# Altium integrated library TI Power Management Linear Regulator Dual Channel LDO.IntLib: 299 symbols (part 4 of 15)
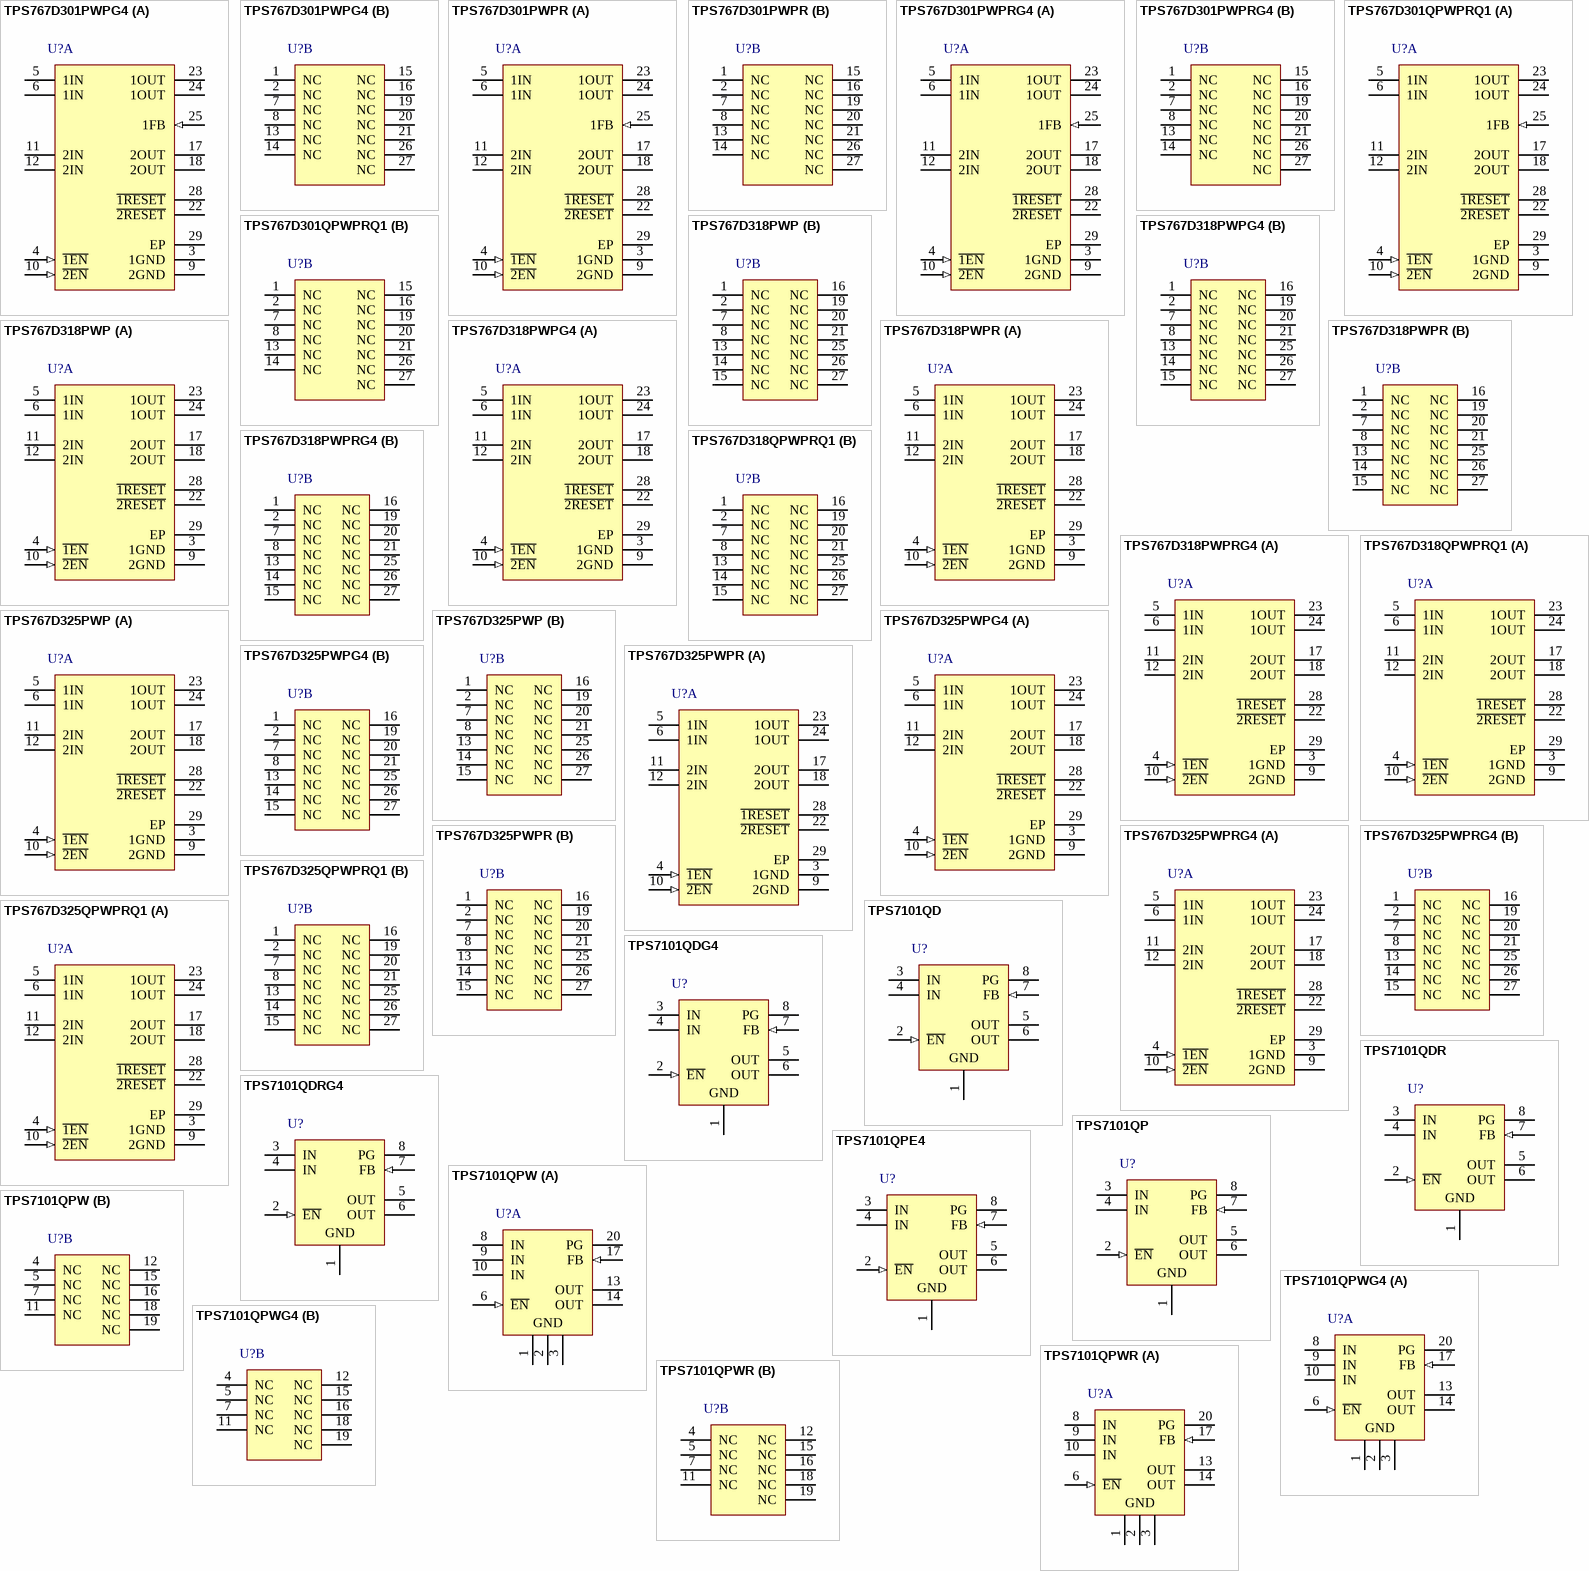
[diagram p14: symbols TPS767D301PWPG4 to TPS7101QPWR]

## TPS767D318PWPR
designator U?
Dual Output LDO, 1 A, Fixed 1.8, 3.3 V Output, 2.7 to 10 V Input, 28-pin HTSSOP (PWP), -40 to 125 degC, Green (RoHS & no Sb/Br); Manufacturer: Texas Instruments; PartNumber: TPS767D318PWPR; Iout(Max)(A): 1; Iq(Typ)(mA): 0.08; SubFamily: Dual Channel LDO; Vdo(Typ)(mV): 350; Vin(Max)(V): 10; Vin(Min)(V): 2.7; Vout(Max)(V): 3.3; DatasheetVersion: SLVS209H; PackageVersion: 4073225-6/I; PackageReference: PWP28-5905X2000TP; PackageDescription: 28-Pin Plastic Small Outline, Body 4.4 x 9.7 mm, Pitch 0.65 mm; Supplier 1: Digi-Key; Supplier Part Number 1: 296-27080-2-ND; Supplier 2: Digi-Key; Supplier Part Number 2: 296-27080-1-ND; Supplier 3: Digi-Key; Supplier Part Number 3: 296-27080-6-ND; Supplier 4: Newark; Supplier Part Number 4: 77C1066; Supplier 5: Mouser; Supplier Part Number 5: 595-TPS767D318PWPR; Eco-Plan: Green (RoHS & no Sb/Br); Fixed Output Options(V): 1.8, 3.3; Iout2(A): 1; Vout(Min)(V): 3.3; Vout2(Max)(V): 3.3; Vout2(Min)(V): 3.3; Mounting Technology: Surface Mount; Code_JEDEC: MO-153; ComponentLink1Description: Manufacturer URL; ComponentLink1URL: http://www.ti.com/; ComponentLink2Description: Datasheet; ComponentLink2URL: http://www.ti.com/general/docs/lit/getliterature.tsp?genericPartNumber=TPS767D318&fileType=pdf; ComponentLink3Description: Package Specification; ComponentLink3URL: http://www.ti.com/litv/pdf/mpds373
footprint TI-PWP28-5905X2000TP_N (SOP, 28-Leads, Body 9.7x4.4mm, Pitch 0.65mm, Thermal Pad 6.405 x 2.000mm, IPC Medium Density)
footprint TI-PWP28-5905X2000TP_L (SOP, 28-Leads, Body 9.7x4.4mm, Pitch 0.65mm, Thermal Pad 6.405 x 2.000mm, IPC High Density)
footprint TI-PWP28-5905X2000TP_M (SOP, 28-Leads, Body 9.7x4.4mm, Pitch 0.65mm, Thermal Pad 6.405 x 2.000mm, IPC Low Density)
part A pins: 3 1GND (power) "Regulator #1 ground", 4 ~{1EN} (in) "Regulator #1 enable", 5 1IN (power) "Regulator #1 input supply voltage", 6 1IN (power) "Regulator #1 input supply voltage", 9 2GND (power) "Regulator #2 ground", 10 ~{2EN} (in) "Regulator #2 enable", 11 2IN (power) "Regulator #2 input supply voltage", 12 2IN (power) "Regulator #2 input supply voltage", 17 2OUT (power) "Regulator #2 output voltage", 18 2OUT (power) "Regulator #2 output voltage", 22 ~{2RESET} (hiz) "Regulator #2 reset signal", 23 1OUT (power) "Regulator #1 output voltage", 24 1OUT (power) "Regulator #1 output voltage", 28 ~{1RESET} (hiz) "Regulator #1 reset signal", 29 EP "Exposed Thermal Pad"
part B pins: 1 NC "No internal connection", 2 NC "No internal connection", 7 NC "No internal connection", 8 NC "No internal connection", 13 NC "No internal connection", 14 NC "No internal connection", 15 NC "No internal connection", 16 NC "No internal connection", 19 NC "No internal connection", 20 NC "No internal connection", 21 NC "No internal connection", 25 NC "No internal connection", 26 NC "No internal connection", 27 NC "No internal connection"

## TPS767D318PWPRG4
designator U?
Dual Output LDO, 1 A, Fixed 1.8, 3.3 V Output, 2.7 to 10 V Input, 28-pin HTSSOP (PWP), -40 to 125 degC, Green (RoHS & no Sb/Br); Manufacturer: Texas Instruments; PartNumber: TPS767D318PWPRG4; Iout(Max)(A): 1; Iq(Typ)(mA): 0.08; SubFamily: Dual Channel LDO; Vdo(Typ)(mV): 350; Vin(Max)(V): 10; Vin(Min)(V): 2.7; Vout(Max)(V): 3.3; DatasheetVersion: SLVS209H; PackageVersion: 4073225-6/I; PackageReference: PWP28-5905X2000TP; PackageDescription: 28-Pin Plastic Small Outline, Body 4.4 x 9.7 mm, Pitch 0.65 mm; Supplier 1: Digi-Key; Supplier Part Number 1: TPS767D318PWPRG4-ND; Supplier 2: Newark; Supplier Part Number 2: 08K4973; Supplier 3: Mouser; Supplier Part Number 3: 595-TPS767D318PWPRG4; Eco-Plan: Green (RoHS & no Sb/Br); Fixed Output Options(V): 1.8, 3.3; Iout2(A): 1; Vout(Min)(V): 3.3; Vout2(Max)(V): 3.3; Vout2(Min)(V): 3.3; Mounting Technology: Surface Mount; Code_JEDEC: MO-153; ComponentLink1Description: Manufacturer URL; ComponentLink1URL: http://www.ti.com/; ComponentLink2Description: Datasheet; ComponentLink2URL: http://www.ti.com/general/docs/lit/getliterature.tsp?genericPartNumber=TPS767D318&fileType=pdf; ComponentLink3Description: Package Specification; ComponentLink3URL: http://www.ti.com/litv/pdf/mpds373
footprint TI-PWP28-5905X2000TP_N (SOP, 28-Leads, Body 9.7x4.4mm, Pitch 0.65mm, Thermal Pad 6.405 x 2.000mm, IPC Medium Density)
footprint TI-PWP28-5905X2000TP_L (SOP, 28-Leads, Body 9.7x4.4mm, Pitch 0.65mm, Thermal Pad 6.405 x 2.000mm, IPC High Density)
footprint TI-PWP28-5905X2000TP_M (SOP, 28-Leads, Body 9.7x4.4mm, Pitch 0.65mm, Thermal Pad 6.405 x 2.000mm, IPC Low Density)
part A pins: 3 1GND (power) "Regulator #1 ground", 4 ~{1EN} (in) "Regulator #1 enable", 5 1IN (power) "Regulator #1 input supply voltage", 6 1IN (power) "Regulator #1 input supply voltage", 9 2GND (power) "Regulator #2 ground", 10 ~{2EN} (in) "Regulator #2 enable", 11 2IN (power) "Regulator #2 input supply voltage", 12 2IN (power) "Regulator #2 input supply voltage", 17 2OUT (power) "Regulator #2 output voltage", 18 2OUT (power) "Regulator #2 output voltage", 22 ~{2RESET} (hiz) "Regulator #2 reset signal", 23 1OUT (power) "Regulator #1 output voltage", 24 1OUT (power) "Regulator #1 output voltage", 28 ~{1RESET} (hiz) "Regulator #1 reset signal", 29 EP "Exposed Thermal Pad"
part B pins: 1 NC "No internal connection", 2 NC "No internal connection", 7 NC "No internal connection", 8 NC "No internal connection", 13 NC "No internal connection", 14 NC "No internal connection", 15 NC "No internal connection", 16 NC "No internal connection", 19 NC "No internal connection", 20 NC "No internal connection", 21 NC "No internal connection", 25 NC "No internal connection", 26 NC "No internal connection", 27 NC "No internal connection"

## TPS767D318QPWPRQ1
designator U?
Dual Output Automotive LDO, 1 A, Fixed 1.8, 3.3 V Output, 2.7 to 10 V Input, 28-pin HTSSOP (PWP), -40 to 125 degC, Green (RoHS & no Sb/Br); Manufacturer: Texas Instruments; PartNumber: TPS767D318QPWPRQ1; Iout(Max)(A): 1; Iq(Typ)(mA): 0.08; SubFamily: Dual Channel LDO; Vdo(Typ)(mV): 350; Vin(Max)(V): 10; Vin(Min)(V): 2.7; Vout(Max)(V): 1.8; Vout2(Max)(V): 3.3; DatasheetVersion: SGLS231A; PackageVersion: 4073225-6/I; PackageReference: PWP28-5905X2000TP; PackageDescription: 28-Pin Plastic Small Outline, Body 4.4 x 9.7 mm, Pitch 0.65 mm; Supplier 1: Digi-Key; Supplier Part Number 1: 296-19003-2-ND; Supplier 2: Digi-Key; Supplier Part Number 2: 296-19003-1-ND; Supplier 3: Digi-Key; Supplier Part Number 3: 296-19003-6-ND; Supplier 4: Newark; Supplier Part Number 4: 10J9792; Supplier 5: Mouser; Supplier Part Number 5: 595-TPS767D318QPWPQ1; Eco-Plan: Green (RoHS & no Sb/Br); Fixed Output Options(V): 1.8, 3.3; Iout2(A): 1; Vout(Min)(V): 1.8; Vout2(Min)(V): 3.3; Mounting Technology: Surface Mount; Code_JEDEC: MO-153; ComponentLink1Description: Manufacturer URL; ComponentLink1URL: http://www.ti.com/; ComponentLink2Description: Datasheet; ComponentLink2URL: http://www.ti.com/general/docs/lit/getliterature.tsp?genericPartNumber=TPS767D318-Q1&fileType=pdf; ComponentLink3Description: Package Specification; ComponentLink3URL: http://www.ti.com/litv/pdf/mpds373
footprint TI-PWP28-5905X2000TP_N (SOP, 28-Leads, Body 9.7x4.4mm, Pitch 0.65mm, Thermal Pad 6.405 x 2.000mm, IPC Medium Density)
footprint TI-PWP28-5905X2000TP_L (SOP, 28-Leads, Body 9.7x4.4mm, Pitch 0.65mm, Thermal Pad 6.405 x 2.000mm, IPC High Density)
footprint TI-PWP28-5905X2000TP_M (SOP, 28-Leads, Body 9.7x4.4mm, Pitch 0.65mm, Thermal Pad 6.405 x 2.000mm, IPC Low Density)
part A pins: 3 1GND (power) "Regulator #1 ground", 4 ~{1EN} (in) "Regulator #1 enable", 5 1IN (power) "Regulator #1 input supply voltage", 6 1IN (power) "Regulator #1 input supply voltage", 9 2GND (power) "Regulator #2 ground", 10 ~{2EN} (in) "Regulator #2 enable", 11 2IN (power) "Regulator #2 input supply voltage", 12 2IN (power) "Regulator #2 input supply voltage", 17 2OUT (power) "Regulator #2 output voltage", 18 2OUT (power) "Regulator #2 output voltage", 22 ~{2RESET} (hiz) "Regulator #2 reset signal", 23 1OUT (power) "Regulator #1 output voltage", 24 1OUT (power) "Regulator #1 output voltage", 28 ~{1RESET} (hiz) "Regulator #1 reset signal", 29 EP "Exposed Thermal Pad"
part B pins: 1 NC "No internal connection", 2 NC "No internal connection", 7 NC "No internal connection", 8 NC "No internal connection", 13 NC "No internal connection", 14 NC "No internal connection", 15 NC "No internal connection", 16 NC "No internal connection", 19 NC "No internal connection", 20 NC "No internal connection", 21 NC "No internal connection", 25 NC "No internal connection", 26 NC "No internal connection", 27 NC "No internal connection"

## TPS767D325PWP
designator U?
Dual Output LDO, 1 A, Fixed 2.5, 3.3 V Output, 2.7 to 10 V Input, 28-pin HTSSOP (PWP), -40 to 125 degC, Green (RoHS & no Sb/Br); Manufacturer: Texas Instruments; PartNumber: TPS767D325PWP; Iout(Max)(A): 1; Iq(Typ)(mA): 0.08; SubFamily: Dual Channel LDO; Vdo(Typ)(mV): 350; Vin(Max)(V): 10; Vin(Min)(V): 2.7; Vout(Max)(V): 3.3; DatasheetVersion: SLVS209H; PackageVersion: 4073225-6/I; PackageReference: PWP28-5905X2000TP; PackageDescription: 28-Pin Plastic Small Outline, Body 4.4 x 9.7 mm, Pitch 0.65 mm; Supplier 1: Digi-Key; Supplier Part Number 1: 296-2742-5-ND; Supplier 2: Newark; Supplier Part Number 2: 74K3983; Supplier 3: Mouser; Supplier Part Number 3: 595-TPS767D325PWP; Eco-Plan: Green (RoHS & no Sb/Br); Fixed Output Options(V): 2.5, 3.3; Iout2(A): 1; Vout(Min)(V): 3.3; Vout2(Max)(V): 3.3; Vout2(Min)(V): 3.3; Mounting Technology: Surface Mount; Code_JEDEC: MO-153; ComponentLink1Description: Manufacturer URL; ComponentLink1URL: http://www.ti.com/; ComponentLink2Description: Datasheet; ComponentLink2URL: http://www.ti.com/general/docs/lit/getliterature.tsp?genericPartNumber=TPS767D325&fileType=pdf; ComponentLink3Description: Package Specification; ComponentLink3URL: http://www.ti.com/litv/pdf/mpds373
footprint TI-PWP28-5905X2000TP_N (SOP, 28-Leads, Body 9.7x4.4mm, Pitch 0.65mm, Thermal Pad 6.405 x 2.000mm, IPC Medium Density)
footprint TI-PWP28-5905X2000TP_L (SOP, 28-Leads, Body 9.7x4.4mm, Pitch 0.65mm, Thermal Pad 6.405 x 2.000mm, IPC High Density)
footprint TI-PWP28-5905X2000TP_M (SOP, 28-Leads, Body 9.7x4.4mm, Pitch 0.65mm, Thermal Pad 6.405 x 2.000mm, IPC Low Density)
part A pins: 3 1GND (power) "Regulator #1 ground", 4 ~{1EN} (in) "Regulator #1 enable", 5 1IN (power) "Regulator #1 input supply voltage", 6 1IN (power) "Regulator #1 input supply voltage", 9 2GND (power) "Regulator #2 ground", 10 ~{2EN} (in) "Regulator #2 enable", 11 2IN (power) "Regulator #2 input supply voltage", 12 2IN (power) "Regulator #2 input supply voltage", 17 2OUT (power) "Regulator #2 output voltage", 18 2OUT (power) "Regulator #2 output voltage", 22 ~{2RESET} (hiz) "Regulator #2 reset signal", 23 1OUT (power) "Regulator #1 output voltage", 24 1OUT (power) "Regulator #1 output voltage", 28 ~{1RESET} (hiz) "Regulator #1 reset signal", 29 EP "Exposed Thermal Pad"
part B pins: 1 NC "No internal connection", 2 NC "No internal connection", 7 NC "No internal connection", 8 NC "No internal connection", 13 NC "No internal connection", 14 NC "No internal connection", 15 NC "No internal connection", 16 NC "No internal connection", 19 NC "No internal connection", 20 NC "No internal connection", 21 NC "No internal connection", 25 NC "No internal connection", 26 NC "No internal connection", 27 NC "No internal connection"

## TPS767D325PWPG4
designator U?
Dual Output LDO, 1 A, Fixed 2.5, 3.3 V Output, 2.7 to 10 V Input, 28-pin HTSSOP (PWP), -40 to 125 degC, Green (RoHS & no Sb/Br); Manufacturer: Texas Instruments; PartNumber: TPS767D325PWPG4; Iout(Max)(A): 1; Iq(Typ)(mA): 0.08; SubFamily: Dual Channel LDO; Vdo(Typ)(mV): 350; Vin(Max)(V): 10; Vin(Min)(V): 2.7; Vout(Max)(V): 3.3; DatasheetVersion: SLVS209H; PackageVersion: 4073225-6/I; PackageReference: PWP28-5905X2000TP; PackageDescription: 28-Pin Plastic Small Outline, Body 4.4 x 9.7 mm, Pitch 0.65 mm; Supplier 1: Digi-Key; Supplier Part Number 1: TPS767D325PWPG4-ND; Supplier 2: Newark; Supplier Part Number 2: 28M7837; Supplier 3: Mouser; Supplier Part Number 3: 595-TPS767D325PWPG4; Eco-Plan: Green (RoHS & no Sb/Br); Fixed Output Options(V): 2.5, 3.3; Iout2(A): 1; Vout(Min)(V): 3.3; Vout2(Max)(V): 3.3; Vout2(Min)(V): 3.3; Mounting Technology: Surface Mount; Code_JEDEC: MO-153; ComponentLink1Description: Manufacturer URL; ComponentLink1URL: http://www.ti.com/; ComponentLink2Description: Datasheet; ComponentLink2URL: http://www.ti.com/general/docs/lit/getliterature.tsp?genericPartNumber=TPS767D325&fileType=pdf; ComponentLink3Description: Package Specification; ComponentLink3URL: http://www.ti.com/litv/pdf/mpds373
footprint TI-PWP28-5905X2000TP_N (SOP, 28-Leads, Body 9.7x4.4mm, Pitch 0.65mm, Thermal Pad 6.405 x 2.000mm, IPC Medium Density)
footprint TI-PWP28-5905X2000TP_L (SOP, 28-Leads, Body 9.7x4.4mm, Pitch 0.65mm, Thermal Pad 6.405 x 2.000mm, IPC High Density)
footprint TI-PWP28-5905X2000TP_M (SOP, 28-Leads, Body 9.7x4.4mm, Pitch 0.65mm, Thermal Pad 6.405 x 2.000mm, IPC Low Density)
part A pins: 3 1GND (power) "Regulator #1 ground", 4 ~{1EN} (in) "Regulator #1 enable", 5 1IN (power) "Regulator #1 input supply voltage", 6 1IN (power) "Regulator #1 input supply voltage", 9 2GND (power) "Regulator #2 ground", 10 ~{2EN} (in) "Regulator #2 enable", 11 2IN (power) "Regulator #2 input supply voltage", 12 2IN (power) "Regulator #2 input supply voltage", 17 2OUT (power) "Regulator #2 output voltage", 18 2OUT (power) "Regulator #2 output voltage", 22 ~{2RESET} (hiz) "Regulator #2 reset signal", 23 1OUT (power) "Regulator #1 output voltage", 24 1OUT (power) "Regulator #1 output voltage", 28 ~{1RESET} (hiz) "Regulator #1 reset signal", 29 EP "Exposed Thermal Pad"
part B pins: 1 NC "No internal connection", 2 NC "No internal connection", 7 NC "No internal connection", 8 NC "No internal connection", 13 NC "No internal connection", 14 NC "No internal connection", 15 NC "No internal connection", 16 NC "No internal connection", 19 NC "No internal connection", 20 NC "No internal connection", 21 NC "No internal connection", 25 NC "No internal connection", 26 NC "No internal connection", 27 NC "No internal connection"

## TPS767D325PWPR
designator U?
Dual Output LDO, 1 A, Fixed 2.5, 3.3 V Output, 2.7 to 10 V Input, 28-pin HTSSOP (PWP), -40 to 125 degC, Green (RoHS & no Sb/Br); Manufacturer: Texas Instruments; PartNumber: TPS767D325PWPR; Iout(Max)(A): 1; Iq(Typ)(mA): 0.08; SubFamily: Dual Channel LDO; Vdo(Typ)(mV): 350; Vin(Max)(V): 10; Vin(Min)(V): 2.7; Vout(Max)(V): 3.3; DatasheetVersion: SLVS209H; PackageVersion: 4073225-6/I; PackageReference: PWP28-5905X2000TP; PackageDescription: 28-Pin Plastic Small Outline, Body 4.4 x 9.7 mm, Pitch 0.65 mm; Supplier 1: Digi-Key; Supplier Part Number 1: TPS767D325PWPR-ND; Supplier 2: Mouser; Supplier Part Number 2: 595-TPS767D325PWPR; Eco-Plan: Green (RoHS & no Sb/Br); Fixed Output Options(V): 2.5, 3.3; Iout2(A): 1; Vout(Min)(V): 3.3; Vout2(Max)(V): 3.3; Vout2(Min)(V): 3.3; Mounting Technology: Surface Mount; Code_JEDEC: MO-153; ComponentLink1Description: Manufacturer URL; ComponentLink1URL: http://www.ti.com/; ComponentLink2Description: Datasheet; ComponentLink2URL: http://www.ti.com/general/docs/lit/getliterature.tsp?genericPartNumber=TPS767D325&fileType=pdf; ComponentLink3Description: Package Specification; ComponentLink3URL: http://www.ti.com/litv/pdf/mpds373
footprint TI-PWP28-5905X2000TP_N (SOP, 28-Leads, Body 9.7x4.4mm, Pitch 0.65mm, Thermal Pad 6.405 x 2.000mm, IPC Medium Density)
footprint TI-PWP28-5905X2000TP_L (SOP, 28-Leads, Body 9.7x4.4mm, Pitch 0.65mm, Thermal Pad 6.405 x 2.000mm, IPC High Density)
footprint TI-PWP28-5905X2000TP_M (SOP, 28-Leads, Body 9.7x4.4mm, Pitch 0.65mm, Thermal Pad 6.405 x 2.000mm, IPC Low Density)
part A pins: 3 1GND (power) "Regulator #1 ground", 4 ~{1EN} (in) "Regulator #1 enable", 5 1IN (power) "Regulator #1 input supply voltage", 6 1IN (power) "Regulator #1 input supply voltage", 9 2GND (power) "Regulator #2 ground", 10 ~{2EN} (in) "Regulator #2 enable", 11 2IN (power) "Regulator #2 input supply voltage", 12 2IN (power) "Regulator #2 input supply voltage", 17 2OUT (power) "Regulator #2 output voltage", 18 2OUT (power) "Regulator #2 output voltage", 22 ~{2RESET} (hiz) "Regulator #2 reset signal", 23 1OUT (power) "Regulator #1 output voltage", 24 1OUT (power) "Regulator #1 output voltage", 28 ~{1RESET} (hiz) "Regulator #1 reset signal", 29 EP "Exposed Thermal Pad"
part B pins: 1 NC "No internal connection", 2 NC "No internal connection", 7 NC "No internal connection", 8 NC "No internal connection", 13 NC "No internal connection", 14 NC "No internal connection", 15 NC "No internal connection", 16 NC "No internal connection", 19 NC "No internal connection", 20 NC "No internal connection", 21 NC "No internal connection", 25 NC "No internal connection", 26 NC "No internal connection", 27 NC "No internal connection"

## TPS767D325PWPRG4
designator U?
Dual Output LDO, 1 A, Fixed 2.5, 3.3 V Output, 2.7 to 10 V Input, 28-pin HTSSOP (PWP), -40 to 125 degC, Green (RoHS & no Sb/Br); Manufacturer: Texas Instruments; PartNumber: TPS767D325PWPRG4; Iout(Max)(A): 1; Iq(Typ)(mA): 0.08; SubFamily: Dual Channel LDO; Vdo(Typ)(mV): 350; Vin(Max)(V): 10; Vin(Min)(V): 2.7; Vout(Max)(V): 3.3; DatasheetVersion: SLVS209H; PackageVersion: 4073225-6/I; PackageReference: PWP28-5905X2000TP; PackageDescription: 28-Pin Plastic Small Outline, Body 4.4 x 9.7 mm, Pitch 0.65 mm; Supplier 1: Digi-Key; Supplier Part Number 1: TPS767D325PWPRG4-ND; Supplier 2: Newark; Supplier Part Number 2: 67K8680; Supplier 3: Mouser; Supplier Part Number 3: 595-TPS767D325PWPRG4; Eco-Plan: Green (RoHS & no Sb/Br); Fixed Output Options(V): 2.5, 3.3; Iout2(A): 1; Vout(Min)(V): 3.3; Vout2(Max)(V): 3.3; Vout2(Min)(V): 3.3; Mounting Technology: Surface Mount; Code_JEDEC: MO-153; ComponentLink1Description: Manufacturer URL; ComponentLink1URL: http://www.ti.com/; ComponentLink2Description: Datasheet; ComponentLink2URL: http://www.ti.com/general/docs/lit/getliterature.tsp?genericPartNumber=TPS767D325&fileType=pdf; ComponentLink3Description: Package Specification; ComponentLink3URL: http://www.ti.com/litv/pdf/mpds373
footprint TI-PWP28-5905X2000TP_N (SOP, 28-Leads, Body 9.7x4.4mm, Pitch 0.65mm, Thermal Pad 6.405 x 2.000mm, IPC Medium Density)
footprint TI-PWP28-5905X2000TP_L (SOP, 28-Leads, Body 9.7x4.4mm, Pitch 0.65mm, Thermal Pad 6.405 x 2.000mm, IPC High Density)
footprint TI-PWP28-5905X2000TP_M (SOP, 28-Leads, Body 9.7x4.4mm, Pitch 0.65mm, Thermal Pad 6.405 x 2.000mm, IPC Low Density)
part A pins: 3 1GND (power) "Regulator #1 ground", 4 ~{1EN} (in) "Regulator #1 enable", 5 1IN (power) "Regulator #1 input supply voltage", 6 1IN (power) "Regulator #1 input supply voltage", 9 2GND (power) "Regulator #2 ground", 10 ~{2EN} (in) "Regulator #2 enable", 11 2IN (power) "Regulator #2 input supply voltage", 12 2IN (power) "Regulator #2 input supply voltage", 17 2OUT (power) "Regulator #2 output voltage", 18 2OUT (power) "Regulator #2 output voltage", 22 ~{2RESET} (hiz) "Regulator #2 reset signal", 23 1OUT (power) "Regulator #1 output voltage", 24 1OUT (power) "Regulator #1 output voltage", 28 ~{1RESET} (hiz) "Regulator #1 reset signal", 29 EP "Exposed Thermal Pad"
part B pins: 1 NC "No internal connection", 2 NC "No internal connection", 7 NC "No internal connection", 8 NC "No internal connection", 13 NC "No internal connection", 14 NC "No internal connection", 15 NC "No internal connection", 16 NC "No internal connection", 19 NC "No internal connection", 20 NC "No internal connection", 21 NC "No internal connection", 25 NC "No internal connection", 26 NC "No internal connection", 27 NC "No internal connection"

## TPS767D325QPWPRQ1
designator U?
Dual Output Automotive LDO, 1 A, Fixed 2.5, 3.3 V Output, 2.7 to 10 V Input, 28-pin HTSSOP (PWP), -40 to 125 degC, Green (RoHS & no Sb/Br); Manufacturer: Texas Instruments; PartNumber: TPS767D325QPWPRQ1; Iout(Max)(A): 1; Iq(Typ)(mA): 0.08; SubFamily: Dual Channel LDO; Vdo(Typ)(mV): 350; Vin(Max)(V): 10; Vin(Min)(V): 2.7; Vout(Max)(V): 2.5; Vout2(Max)(V): 3.3; DatasheetVersion: SGLS231A; PackageVersion: 4073225-6/I; PackageReference: PWP28-5905X2000TP; PackageDescription: 28-Pin Plastic Small Outline, Body 4.4 x 9.7 mm, Pitch 0.65 mm; Supplier 1: Digi-Key; Supplier Part Number 1: 296-17532-2-ND; Supplier 2: Digi-Key; Supplier Part Number 2: 296-17532-1-ND; Supplier 3: Digi-Key; Supplier Part Number 3: 296-17532-6-ND; Supplier 4: Mouser; Supplier Part Number 4: 595-TPS767D325QPWPQ1; Eco-Plan: Green (RoHS & no Sb/Br); Fixed Output Options(V): 2.5, 3.3; Iout2(A): 1; Vout(Min)(V): 2.5; Vout2(Min)(V): 3.3; Mounting Technology: Surface Mount; Code_JEDEC: MO-153; ComponentLink1Description: Manufacturer URL; ComponentLink1URL: http://www.ti.com/; ComponentLink2Description: Datasheet; ComponentLink2URL: http://www.ti.com/general/docs/lit/getliterature.tsp?genericPartNumber=TPS767D325-Q1&fileType=pdf; ComponentLink3Description: Package Specification; ComponentLink3URL: http://www.ti.com/litv/pdf/mpds373
footprint TI-PWP28-5905X2000TP_N (SOP, 28-Leads, Body 9.7x4.4mm, Pitch 0.65mm, Thermal Pad 6.405 x 2.000mm, IPC Medium Density)
footprint TI-PWP28-5905X2000TP_L (SOP, 28-Leads, Body 9.7x4.4mm, Pitch 0.65mm, Thermal Pad 6.405 x 2.000mm, IPC High Density)
footprint TI-PWP28-5905X2000TP_M (SOP, 28-Leads, Body 9.7x4.4mm, Pitch 0.65mm, Thermal Pad 6.405 x 2.000mm, IPC Low Density)
part A pins: 3 1GND (power) "Regulator #1 ground", 4 ~{1EN} (in) "Regulator #1 enable", 5 1IN (power) "Regulator #1 input supply voltage", 6 1IN (power) "Regulator #1 input supply voltage", 9 2GND (power) "Regulator #2 ground", 10 ~{2EN} (in) "Regulator #2 enable", 11 2IN (power) "Regulator #2 input supply voltage", 12 2IN (power) "Regulator #2 input supply voltage", 17 2OUT (power) "Regulator #2 output voltage", 18 2OUT (power) "Regulator #2 output voltage", 22 ~{2RESET} (hiz) "Regulator #2 reset signal", 23 1OUT (power) "Regulator #1 output voltage", 24 1OUT (power) "Regulator #1 output voltage", 28 ~{1RESET} (hiz) "Regulator #1 reset signal", 29 EP "Exposed Thermal Pad"
part B pins: 1 NC "No internal connection", 2 NC "No internal connection", 7 NC "No internal connection", 8 NC "No internal connection", 13 NC "No internal connection", 14 NC "No internal connection", 15 NC "No internal connection", 16 NC "No internal connection", 19 NC "No internal connection", 20 NC "No internal connection", 21 NC "No internal connection", 25 NC "No internal connection", 26 NC "No internal connection", 27 NC "No internal connection"

## TPS7101QD
designator U?
PMOS LDO, 500 mA, 2.5 to 10 V Input, 8-pin SOIC (D), -40 to 125 degC, Green (RoHS & no Sb/Br); Manufacturer: Texas Instruments; PartNumber: TPS7101QD; Iout(Max)(A): 0.5; Iq(Typ)(mA): 0.28; SubFamily: Dual Channel LDO; Vdo(Typ)(mV): 235; Vin(Max)(V): 10; Vin(Min)(V): 2.5; DatasheetVersion: SLVS092G; PackageVersion: 4040047-3/M; PackageReference: D8; PackageDescription: 8-Pin Plastic Small Outline, Body 4.9 x 3.9 mm, Pitch 1.27 mm; Supplier 1: Digi-Key; Supplier Part Number 1: 296-27041-5-ND; Supplier 2: Farnell; Supplier Part Number 2: 6532822; Supplier 3: Newark; Supplier Part Number 3: 73C1716; Supplier 4: Mouser; Supplier Part Number 4: 595-TPS7101QD; Eco-Plan: Green (RoHS & no Sb/Br); Mounting Technology: Surface Mount; Code_JEDEC: MS-012; ComponentLink1Description: Manufacturer URL; ComponentLink1URL: http://www.ti.com/; ComponentLink2Description: Datasheet; ComponentLink2URL: http://www.ti.com/general/docs/lit/getliterature.tsp?genericPartNumber=TPS7101&fileType=pdf; ComponentLink3Description: Package Specification; ComponentLink3URL: http://www.ti.com/litv/pdf/msoi002j
footprint TI-D8_N (SOIC, 8-Leads, Body 4.9x3.9mm, Pitch 1.27mm, IPC Medium Density)
footprint TI-D8_L (SOIC, 8-Leads, Body 4.9x3.9mm, Pitch 1.27mm, IPC High Density)
footprint TI-D8_M (SOIC, 8-Leads, Body 4.9x3.9mm, Pitch 1.27mm, IPC Low Density)
pins: 1 GND (power) "Regulator ground", 2 ~{EN} (in) "Enable input", 3 IN (power) "Input voltage", 4 IN (power) "Input voltage", 5 OUT (power) "Regulated output voltage", 6 OUT (power) "Regulated output voltage", 7 FB (in) "Feedback input voltage for adjustable device", 8 PG (hiz) "PG output"

## TPS7101QDG4
designator U?
PMOS LDO, 500 mA, 2.5 to 10 V Input, 8-pin SOIC (D), -40 to 125 degC, Green (RoHS & no Sb/Br); Manufacturer: Texas Instruments; PartNumber: TPS7101QDG4; Iout(Max)(A): 0.5; Iq(Typ)(mA): 0.28; SubFamily: Dual Channel LDO; Vdo(Typ)(mV): 235; Vin(Max)(V): 10; Vin(Min)(V): 2.5; DatasheetVersion: SLVS092G; PackageVersion: 4040047-3/M; PackageReference: D8; PackageDescription: 8-Pin Plastic Small Outline, Body 4.9 x 3.9 mm, Pitch 1.27 mm; Supplier 1: Digi-Key; Supplier Part Number 1: TPS7101QDG4-ND; Supplier 2: Farnell; Supplier Part Number 2: 1234710; Supplier 3: Newark; Supplier Part Number 3: 13M3300; Supplier 4: Newark; Supplier Part Number 4: 67K8654; Supplier 5: Mouser; Supplier Part Number 5: 595-TPS7101QDG4; Eco-Plan: Green (RoHS & no Sb/Br); Mounting Technology: Surface Mount; Code_JEDEC: MS-012; ComponentLink1Description: Manufacturer URL; ComponentLink1URL: http://www.ti.com/; ComponentLink2Description: Datasheet; ComponentLink2URL: http://www.ti.com/general/docs/lit/getliterature.tsp?genericPartNumber=TPS7101&fileType=pdf; ComponentLink3Description: Package Specification; ComponentLink3URL: http://www.ti.com/litv/pdf/msoi002j
footprint TI-D8_N (SOIC, 8-Leads, Body 4.9x3.9mm, Pitch 1.27mm, IPC Medium Density)
footprint TI-D8_L (SOIC, 8-Leads, Body 4.9x3.9mm, Pitch 1.27mm, IPC High Density)
footprint TI-D8_M (SOIC, 8-Leads, Body 4.9x3.9mm, Pitch 1.27mm, IPC Low Density)
pins: 1 GND (power) "Regulator ground", 2 ~{EN} (in) "Enable input", 3 IN (power) "Input voltage", 4 IN (power) "Input voltage", 5 OUT (power) "Regulated output voltage", 6 OUT (power) "Regulated output voltage", 7 FB (in) "Feedback input voltage for adjustable device", 8 PG (hiz) "PG output"

## TPS7101QDR
designator U?
PMOS LDO, 500 mA, 2.5 to 10 V Input, 8-pin SOIC (D), -40 to 125 degC, Green (RoHS & no Sb/Br); Manufacturer: Texas Instruments; PartNumber: TPS7101QDR; Iout(Max)(A): 0.5; Iq(Typ)(mA): 0.28; SubFamily: Dual Channel LDO; Vdo(Typ)(mV): 235; Vin(Max)(V): 10; Vin(Min)(V): 2.5; DatasheetVersion: SLVS092G; PackageVersion: 4040047-3/M; PackageReference: D8; PackageDescription: 8-Pin Plastic Small Outline, Body 4.9 x 3.9 mm, Pitch 1.27 mm; Supplier 1: Digi-Key; Supplier Part Number 1: 296-1359-2-ND; Supplier 2: Digi-Key; Supplier Part Number 2: 296-1359-1-ND; Supplier 3: Digi-Key; Supplier Part Number 3: 296-1359-6-ND; Supplier 4: Newark; Supplier Part Number 4: 35C2217; Supplier 5: Mouser; Supplier Part Number 5: 595-TPS7101QDR; Eco-Plan: Green (RoHS & no Sb/Br); Mounting Technology: Surface Mount; Code_JEDEC: MS-012; ComponentLink1Description: Manufacturer URL; ComponentLink1URL: http://www.ti.com/; ComponentLink2Description: Datasheet; ComponentLink2URL: http://www.ti.com/general/docs/lit/getliterature.tsp?genericPartNumber=TPS7101&fileType=pdf; ComponentLink3Description: Package Specification; ComponentLink3URL: http://www.ti.com/litv/pdf/msoi002j
footprint TI-D8_N (SOIC, 8-Leads, Body 4.9x3.9mm, Pitch 1.27mm, IPC Medium Density)
footprint TI-D8_L (SOIC, 8-Leads, Body 4.9x3.9mm, Pitch 1.27mm, IPC High Density)
footprint TI-D8_M (SOIC, 8-Leads, Body 4.9x3.9mm, Pitch 1.27mm, IPC Low Density)
pins: 1 GND (power) "Regulator ground", 2 ~{EN} (in) "Enable input", 3 IN (power) "Input voltage", 4 IN (power) "Input voltage", 5 OUT (power) "Regulated output voltage", 6 OUT (power) "Regulated output voltage", 7 FB (in) "Feedback input voltage for adjustable device", 8 PG (hiz) "PG output"

## TPS7101QDRG4
designator U?
PMOS LDO, 500 mA, 2.5 to 10 V Input, 8-pin SOIC (D), -40 to 125 degC, Green (RoHS & no Sb/Br); Manufacturer: Texas Instruments; PartNumber: TPS7101QDRG4; Iout(Max)(A): 0.5; Iq(Typ)(mA): 0.28; SubFamily: Dual Channel LDO; Vdo(Typ)(mV): 235; Vin(Max)(V): 10; Vin(Min)(V): 2.5; DatasheetVersion: SLVS092G; PackageVersion: 4040047-3/M; PackageReference: D8; PackageDescription: 8-Pin Plastic Small Outline, Body 4.9 x 3.9 mm, Pitch 1.27 mm; Supplier 1: Digi-Key; Supplier Part Number 1: TPS7101QDRG4-ND; Supplier 2: Mouser; Supplier Part Number 2: 595-TPS7101QDRG4; Eco-Plan: Green (RoHS & no Sb/Br); Mounting Technology: Surface Mount; Code_JEDEC: MS-012; ComponentLink1Description: Manufacturer URL; ComponentLink1URL: http://www.ti.com/; ComponentLink2Description: Datasheet; ComponentLink2URL: http://www.ti.com/general/docs/lit/getliterature.tsp?genericPartNumber=TPS7101&fileType=pdf; ComponentLink3Description: Package Specification; ComponentLink3URL: http://www.ti.com/litv/pdf/msoi002j
footprint TI-D8_N (SOIC, 8-Leads, Body 4.9x3.9mm, Pitch 1.27mm, IPC Medium Density)
footprint TI-D8_L (SOIC, 8-Leads, Body 4.9x3.9mm, Pitch 1.27mm, IPC High Density)
footprint TI-D8_M (SOIC, 8-Leads, Body 4.9x3.9mm, Pitch 1.27mm, IPC Low Density)
pins: 1 GND (power) "Regulator ground", 2 ~{EN} (in) "Enable input", 3 IN (power) "Input voltage", 4 IN (power) "Input voltage", 5 OUT (power) "Regulated output voltage", 6 OUT (power) "Regulated output voltage", 7 FB (in) "Feedback input voltage for adjustable device", 8 PG (hiz) "PG output"

## TPS7101QP
designator U?
PMOS LDO, 500 mA, 2.5 to 10 V Input, 8-pin PDIP (P), -40 to 125 degC, Pb-Free (RoHS); Manufacturer: Texas Instruments; PartNumber: TPS7101QP; Iout(Max)(A): 0.5; Iq(Typ)(mA): 0.28; SubFamily: Dual Channel LDO; Vdo(Typ)(mV): 235; Vin(Max)(V): 10; Vin(Min)(V): 2.5; DatasheetVersion: SLVS092G; PackageVersion: 4040082/E; PackageReference: P8; PackageDescription: 8-Pin Plastic In-Line, Body 9.59 x 6.35 mm, 2.54 mm Pitch; Supplier 1: Digi-Key; Supplier Part Number 1: 296-8041-5-ND; Supplier 2: Mouser; Supplier Part Number 2: 595-TPS7101QP; Eco-Plan: Pb-Free (RoHS); Mounting Technology: Through Hole; Code_JEDEC: MS-001; ComponentLink1Description: Manufacturer URL; ComponentLink1URL: http://www.ti.com/; ComponentLink2Description: Datasheet; ComponentLink2URL: http://www.ti.com/general/docs/lit/getliterature.tsp?genericPartNumber=TPS7101&fileType=pdf; ComponentLink3Description: Package Specification; ComponentLink3URL: http://www.ti.com/litv/pdf/mpdi001b
footprint TI-P8 (DIP, 8-Leads, Body 9.59x6.35mm, Pitch 2.54mm)
pins: 1 GND (power) "Regulator ground", 2 ~{EN} (in) "Enable input", 3 IN (power) "Input voltage", 4 IN (power) "Input voltage", 5 OUT (power) "Regulated output voltage", 6 OUT (power) "Regulated output voltage", 7 FB (in) "Feedback input voltage for adjustable device", 8 PG (hiz) "PG output"

## TPS7101QPE4
designator U?
PMOS LDO, 500 mA, 2.5 to 10 V Input, 8-pin PDIP (P), -40 to 125 degC, Pb-Free (RoHS); Manufacturer: Texas Instruments; PartNumber: TPS7101QPE4; Iout(Max)(A): 0.5; Iq(Typ)(mA): 0.28; SubFamily: Dual Channel LDO; Vdo(Typ)(mV): 235; Vin(Max)(V): 10; Vin(Min)(V): 2.5; DatasheetVersion: SLVS092G; PackageVersion: 4040082/E; PackageReference: P8; PackageDescription: 8-Pin Plastic In-Line, Body 9.59 x 6.35 mm, 2.54 mm Pitch; Supplier 1: Digi-Key; Supplier Part Number 1: TPS7101QPE4-ND; Supplier 2: Mouser; Supplier Part Number 2: 595-TPS7101QPE4; Eco-Plan: Pb-Free (RoHS); Mounting Technology: Through Hole; Code_JEDEC: MS-001; ComponentLink1Description: Manufacturer URL; ComponentLink1URL: http://www.ti.com/; ComponentLink2Description: Datasheet; ComponentLink2URL: http://www.ti.com/general/docs/lit/getliterature.tsp?genericPartNumber=TPS7101&fileType=pdf; ComponentLink3Description: Package Specification; ComponentLink3URL: http://www.ti.com/litv/pdf/mpdi001b
footprint TI-P8 (DIP, 8-Leads, Body 9.59x6.35mm, Pitch 2.54mm)
pins: 1 GND (power) "Regulator ground", 2 ~{EN} (in) "Enable input", 3 IN (power) "Input voltage", 4 IN (power) "Input voltage", 5 OUT (power) "Regulated output voltage", 6 OUT (power) "Regulated output voltage", 7 FB (in) "Feedback input voltage for adjustable device", 8 PG (hiz) "PG output"

## TPS7101QPW
designator U?
PMOS LDO, 500 mA, 2.5 to 10 V Input, 20-pin TSSOP (PW), -40 to 125 degC, Green (RoHS & no Sb/Br); Manufacturer: Texas Instruments; PartNumber: TPS7101QPW; Iout(Max)(A): 0.5; Iq(Typ)(mA): 0.28; SubFamily: Dual Channel LDO; Vdo(Typ)(mV): 235; Vin(Max)(V): 10; Vin(Min)(V): 2.5; DatasheetVersion: SLVS092G; PackageVersion: 4040064-5/G; PackageReference: PW20; PackageDescription: 20-Pin Plastic Small Outline, Body 6.5 x 4.4 mm, 0.65 mm Pitch; Supplier 1: Digi-Key; Supplier Part Number 1: 296-34639-5-ND; Supplier 2: Mouser; Supplier Part Number 2: 595-TPS7101QPW; Eco-Plan: Green (RoHS & no Sb/Br); Mounting Technology: Surface Mount; Code_JEDEC: MO-153; ComponentLink1Description: Manufacturer URL; ComponentLink1URL: http://www.ti.com/; ComponentLink2Description: Datasheet; ComponentLink2URL: http://www.ti.com/general/docs/lit/getliterature.tsp?genericPartNumber=TPS7101&fileType=pdf; ComponentLink3Description: Package Specification; ComponentLink3URL: http://www.ti.com.cn/cn/lit/ml/mpds362/mpds362.pdf
footprint TI-PW20_N (SOP, 20-Leads, Body 6.5x4.4mm, Pitch 0.65mm, IPC Medium Density)
footprint TI-PW20_L (SOP, 20-Leads, Body 6.5x4.4mm, Pitch 0.65mm, IPC High Density)
footprint TI-PW20_M (SOP, 20-Leads, Body 6.5x4.4mm, Pitch 0.65mm, IPC Low Density)
part A pins: 1 GND (power), 2 GND (power), 3 GND (power), 6 ~{EN} (in), 8 IN (power), 9 IN (power), 10 IN (power), 13 OUT (power), 14 OUT (power), 17 FB (in), 20 PG (hiz)
part B pins: 4 NC, 5 NC, 7 NC, 11 NC, 12 NC, 15 NC, 16 NC, 18 NC, 19 NC

## TPS7101QPWG4
designator U?
PMOS LDO, 500 mA, 2.5 to 10 V Input, 20-pin TSSOP (PW), -40 to 125 degC, Green (RoHS & no Sb/Br); Manufacturer: Texas Instruments; PartNumber: TPS7101QPWG4; Iout(Max)(A): 0.5; Iq(Typ)(mA): 0.28; SubFamily: Dual Channel LDO; Vdo(Typ)(mV): 235; Vin(Max)(V): 10; Vin(Min)(V): 2.5; DatasheetVersion: SLVS092G; PackageVersion: 4040064-5/G; PackageReference: PW20; PackageDescription: 20-Pin Plastic Small Outline, Body 6.5 x 4.4 mm, 0.65 mm Pitch; Supplier 1: Digi-Key; Supplier Part Number 1: TPS7101QPWG4-ND; Supplier 2: Newark; Supplier Part Number 2: 41M5898; Supplier 3: Mouser; Supplier Part Number 3: 595-TPS7101QPWG4; Eco-Plan: Green (RoHS & no Sb/Br); Mounting Technology: Surface Mount; Code_JEDEC: MO-153; ComponentLink1Description: Manufacturer URL; ComponentLink1URL: http://www.ti.com/; ComponentLink2Description: Datasheet; ComponentLink2URL: http://www.ti.com/general/docs/lit/getliterature.tsp?genericPartNumber=TPS7101&fileType=pdf; ComponentLink3Description: Package Specification; ComponentLink3URL: http://www.ti.com.cn/cn/lit/ml/mpds362/mpds362.pdf
footprint TI-PW20_N (SOP, 20-Leads, Body 6.5x4.4mm, Pitch 0.65mm, IPC Medium Density)
footprint TI-PW20_L (SOP, 20-Leads, Body 6.5x4.4mm, Pitch 0.65mm, IPC High Density)
footprint TI-PW20_M (SOP, 20-Leads, Body 6.5x4.4mm, Pitch 0.65mm, IPC Low Density)
part A pins: 1 GND (power), 2 GND (power), 3 GND (power), 6 ~{EN} (in), 8 IN (power), 9 IN (power), 10 IN (power), 13 OUT (power), 14 OUT (power), 17 FB (in), 20 PG (hiz)
part B pins: 4 NC, 5 NC, 7 NC, 11 NC, 12 NC, 15 NC, 16 NC, 18 NC, 19 NC

## TPS7101QPWR
designator U?
PMOS LDO, 500 mA, 2.5 to 10 V Input, 20-pin TSSOP (PW), -40 to 125 degC, Green (RoHS & no Sb/Br); Manufacturer: Texas Instruments; PartNumber: TPS7101QPWR; Iout(Max)(A): 0.5; Iq(Typ)(mA): 0.28; SubFamily: Dual Channel LDO; Vdo(Typ)(mV): 235; Vin(Max)(V): 10; Vin(Min)(V): 2.5; DatasheetVersion: SLVS092G; PackageVersion: 4040064-5/G; PackageReference: PW20; PackageDescription: 20-Pin Plastic Small Outline, Body 6.5 x 4.4 mm, 0.65 mm Pitch; Supplier 1: Digi-Key; Supplier Part Number 1: 296-8042-2-ND; Supplier 2: Digi-Key; Supplier Part Number 2: 296-8042-1-ND; Supplier 3: Digi-Key; Supplier Part Number 3: 296-8042-6-ND; Supplier 4: Mouser; Supplier Part Number 4: 595-TPS7101QPWR; Eco-Plan: Green (RoHS & no Sb/Br); Mounting Technology: Surface Mount; Code_JEDEC: MO-153; ComponentLink1Description: Manufacturer URL; ComponentLink1URL: http://www.ti.com/; ComponentLink2Description: Datasheet; ComponentLink2URL: http://www.ti.com/general/docs/lit/getliterature.tsp?genericPartNumber=TPS7101&fileType=pdf; ComponentLink3Description: Package Specification; ComponentLink3URL: http://www.ti.com.cn/cn/lit/ml/mpds362/mpds362.pdf
footprint TI-PW20_N (SOP, 20-Leads, Body 6.5x4.4mm, Pitch 0.65mm, IPC Medium Density)
footprint TI-PW20_L (SOP, 20-Leads, Body 6.5x4.4mm, Pitch 0.65mm, IPC High Density)
footprint TI-PW20_M (SOP, 20-Leads, Body 6.5x4.4mm, Pitch 0.65mm, IPC Low Density)
part A pins: 1 GND (power), 2 GND (power), 3 GND (power), 6 ~{EN} (in), 8 IN (power), 9 IN (power), 10 IN (power), 13 OUT (power), 14 OUT (power), 17 FB (in), 20 PG (hiz)
part B pins: 4 NC, 5 NC, 7 NC, 11 NC, 12 NC, 15 NC, 16 NC, 18 NC, 19 NC

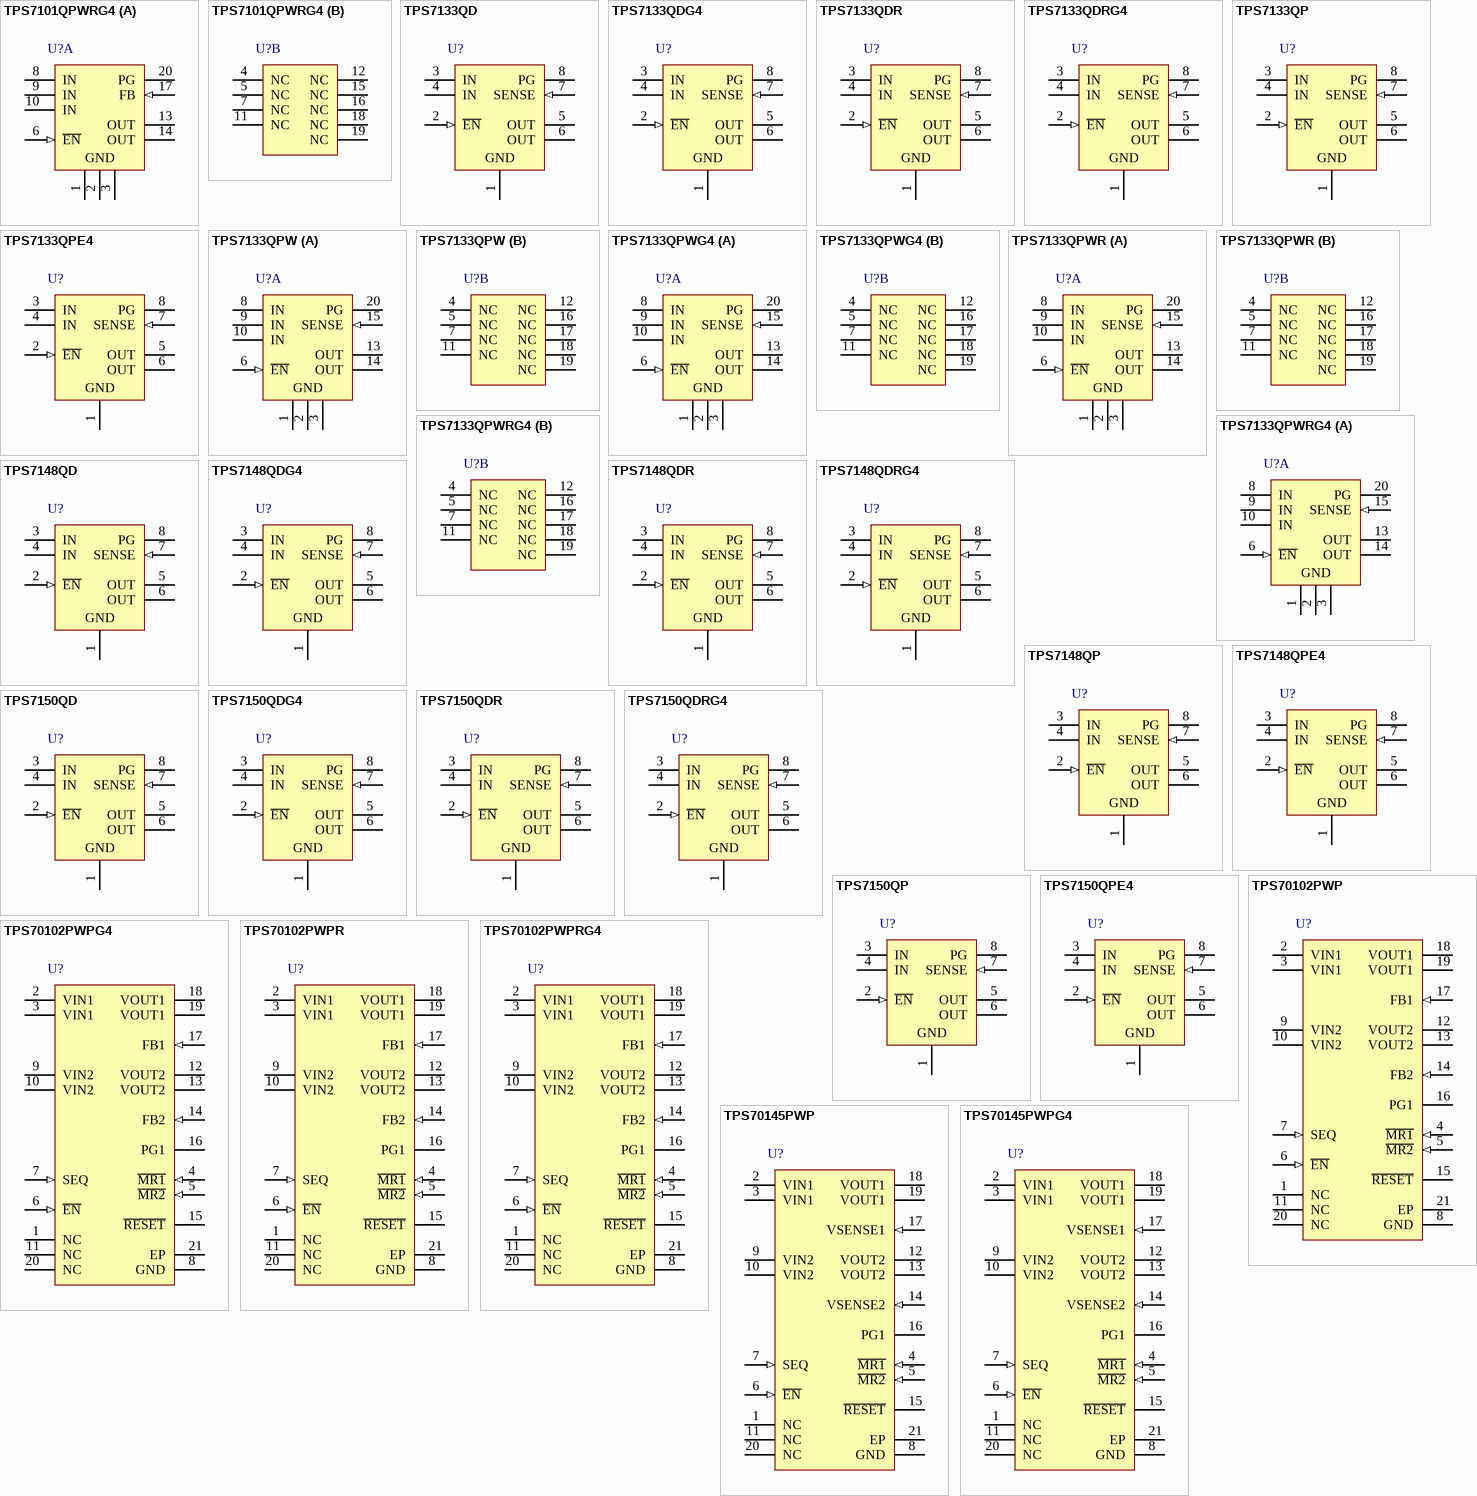
[diagram p3: symbols TPS7101QPWRG4 to TPS70145PWPG4]

## TPS7101QPWRG4
designator U?
PMOS LDO, 500 mA, 2.5 to 10 V Input, 20-pin TSSOP (PW), -40 to 125 degC, Green (RoHS & no Sb/Br); Manufacturer: Texas Instruments; PartNumber: TPS7101QPWRG4; Iout(Max)(A): 0.5; Iq(Typ)(mA): 0.28; SubFamily: Dual Channel LDO; Vdo(Typ)(mV): 235; Vin(Max)(V): 10; Vin(Min)(V): 2.5; DatasheetVersion: SLVS092G; PackageVersion: 4040064-5/G; PackageReference: PW20; PackageDescription: 20-Pin Plastic Small Outline, Body 6.5 x 4.4 mm, 0.65 mm Pitch; Supplier 1: Digi-Key; Supplier Part Number 1: TPS7101QPWRG4-ND; Supplier 2: Mouser; Supplier Part Number 2: 595-TPS7101QPWRG4; Eco-Plan: Green (RoHS & no Sb/Br); Mounting Technology: Surface Mount; Code_JEDEC: MO-153; ComponentLink1Description: Manufacturer URL; ComponentLink1URL: http://www.ti.com/; ComponentLink2Description: Datasheet; ComponentLink2URL: http://www.ti.com/general/docs/lit/getliterature.tsp?genericPartNumber=TPS7101&fileType=pdf; ComponentLink3Description: Package Specification; ComponentLink3URL: http://www.ti.com.cn/cn/lit/ml/mpds362/mpds362.pdf
footprint TI-PW20_N (SOP, 20-Leads, Body 6.5x4.4mm, Pitch 0.65mm, IPC Medium Density)
footprint TI-PW20_L (SOP, 20-Leads, Body 6.5x4.4mm, Pitch 0.65mm, IPC High Density)
footprint TI-PW20_M (SOP, 20-Leads, Body 6.5x4.4mm, Pitch 0.65mm, IPC Low Density)
part A pins: 1 GND (power), 2 GND (power), 3 GND (power), 6 ~{EN} (in), 8 IN (power), 9 IN (power), 10 IN (power), 13 OUT (power), 14 OUT (power), 17 FB (in), 20 PG (hiz)
part B pins: 4 NC, 5 NC, 7 NC, 11 NC, 12 NC, 15 NC, 16 NC, 18 NC, 19 NC

## TPS7133QD
designator U?
PMOS LDO, 500 mA, 3.77 to 10 V Input, 8-pin SOIC (D), -40 to 125 degC, Green (RoHS & no Sb/Br); Manufacturer: Texas Instruments; PartNumber: TPS7133QD; Iout(Max)(A): 0.5; Iq(Typ)(mA): 0.28; SubFamily: Dual Channel LDO; Vdo(Typ)(mV): 235; Vin(Max)(V): 10; Vin(Min)(V): 3.77; Vout(Max)(V): 3.3; DatasheetVersion: SLVS092G; PackageVersion: 4040047-3/M; PackageReference: D8; PackageDescription: 8-Pin Plastic Small Outline, Body 4.9 x 3.9 mm, Pitch 1.27 mm; Supplier 1: Digi-Key; Supplier Part Number 1: 296-2658-5-ND; Supplier 2: Farnell; Supplier Part Number 2: 8458154; Supplier 3: Newark; Supplier Part Number 3: 38K8774; Supplier 4: Newark; Supplier Part Number 4: 90B6636; Supplier 5: Mouser; Supplier Part Number 5: 595-TPS7133QD; Eco-Plan: Green (RoHS & no Sb/Br); Vout(Min)(V): 3.3; Mounting Technology: Surface Mount; Code_JEDEC: MS-012; ComponentLink1Description: Manufacturer URL; ComponentLink1URL: http://www.ti.com/; ComponentLink2Description: Datasheet; ComponentLink2URL: http://www.ti.com/general/docs/lit/getliterature.tsp?genericPartNumber=TPS7133&fileType=pdf; ComponentLink3Description: Package Specification; ComponentLink3URL: http://www.ti.com/litv/pdf/msoi002j
footprint TI-D8_N (SOIC, 8-Leads, Body 4.9x3.9mm, Pitch 1.27mm, IPC Medium Density)
footprint TI-D8_L (SOIC, 8-Leads, Body 4.9x3.9mm, Pitch 1.27mm, IPC High Density)
footprint TI-D8_M (SOIC, 8-Leads, Body 4.9x3.9mm, Pitch 1.27mm, IPC Low Density)
pins: 1 GND (power), 2 ~{EN} (in), 3 IN (power), 4 IN (power), 5 OUT (power), 6 OUT (power), 7 SENSE (in), 8 PG (hiz)

## TPS7133QDG4
designator U?
PMOS LDO, 500 mA, 3.77 to 10 V Input, 8-pin SOIC (D), -40 to 125 degC, Green (RoHS & no Sb/Br); Manufacturer: Texas Instruments; PartNumber: TPS7133QDG4; Iout(Max)(A): 0.5; Iq(Typ)(mA): 0.28; SubFamily: Dual Channel LDO; Vdo(Typ)(mV): 235; Vin(Max)(V): 10; Vin(Min)(V): 3.77; Vout(Max)(V): 3.3; DatasheetVersion: SLVS092G; PackageVersion: 4040047-3/M; PackageReference: D8; PackageDescription: 8-Pin Plastic Small Outline, Body 4.9 x 3.9 mm, Pitch 1.27 mm; Supplier 1: Digi-Key; Supplier Part Number 1: TPS7133QDG4-ND; Supplier 2: Newark; Supplier Part Number 2: 28K5742; Supplier 3: Mouser; Supplier Part Number 3: 595-TPS7133QDG4; Eco-Plan: Green (RoHS & no Sb/Br); Vout(Min)(V): 3.3; Mounting Technology: Surface Mount; Code_JEDEC: MS-012; ComponentLink1Description: Manufacturer URL; ComponentLink1URL: http://www.ti.com/; ComponentLink2Description: Datasheet; ComponentLink2URL: http://www.ti.com/general/docs/lit/getliterature.tsp?genericPartNumber=TPS7133&fileType=pdf; ComponentLink3Description: Package Specification; ComponentLink3URL: http://www.ti.com/litv/pdf/msoi002j
footprint TI-D8_N (SOIC, 8-Leads, Body 4.9x3.9mm, Pitch 1.27mm, IPC Medium Density)
footprint TI-D8_L (SOIC, 8-Leads, Body 4.9x3.9mm, Pitch 1.27mm, IPC High Density)
footprint TI-D8_M (SOIC, 8-Leads, Body 4.9x3.9mm, Pitch 1.27mm, IPC Low Density)
pins: 1 GND (power), 2 ~{EN} (in), 3 IN (power), 4 IN (power), 5 OUT (power), 6 OUT (power), 7 SENSE (in), 8 PG (hiz)

## TPS7133QDR
designator U?
PMOS LDO, 500 mA, 3.77 to 10 V Input, 8-pin SOIC (D), -40 to 125 degC, Green (RoHS & no Sb/Br); Manufacturer: Texas Instruments; PartNumber: TPS7133QDR; Iout(Max)(A): 0.5; Iq(Typ)(mA): 0.28; SubFamily: Dual Channel LDO; Vdo(Typ)(mV): 235; Vin(Max)(V): 10; Vin(Min)(V): 3.77; Vout(Max)(V): 3.3; DatasheetVersion: SLVS092G; PackageVersion: 4040047-3/M; PackageReference: D8; PackageDescription: 8-Pin Plastic Small Outline, Body 4.9 x 3.9 mm, Pitch 1.27 mm; Supplier 1: Digi-Key; Supplier Part Number 1: TPS7133QDR-ND; Supplier 2: Newark; Supplier Part Number 2: 77C0807; Supplier 3: Mouser; Supplier Part Number 3: 595-TPS7133QDR; Eco-Plan: Green (RoHS & no Sb/Br); Vout(Min)(V): 3.3; Mounting Technology: Surface Mount; Code_JEDEC: MS-012; ComponentLink1Description: Manufacturer URL; ComponentLink1URL: http://www.ti.com/; ComponentLink2Description: Datasheet; ComponentLink2URL: http://www.ti.com/general/docs/lit/getliterature.tsp?genericPartNumber=TPS7133&fileType=pdf; ComponentLink3Description: Package Specification; ComponentLink3URL: http://www.ti.com/litv/pdf/msoi002j
footprint TI-D8_N (SOIC, 8-Leads, Body 4.9x3.9mm, Pitch 1.27mm, IPC Medium Density)
footprint TI-D8_L (SOIC, 8-Leads, Body 4.9x3.9mm, Pitch 1.27mm, IPC High Density)
footprint TI-D8_M (SOIC, 8-Leads, Body 4.9x3.9mm, Pitch 1.27mm, IPC Low Density)
pins: 1 GND (power), 2 ~{EN} (in), 3 IN (power), 4 IN (power), 5 OUT (power), 6 OUT (power), 7 SENSE (in), 8 PG (hiz)

## TPS7133QDRG4
designator U?
PMOS LDO, 500 mA, 3.77 to 10 V Input, 8-pin SOIC (D), -40 to 125 degC, Green (RoHS & no Sb/Br); Manufacturer: Texas Instruments; PartNumber: TPS7133QDRG4; Iout(Max)(A): 0.5; Iq(Typ)(mA): 0.28; SubFamily: Dual Channel LDO; Vdo(Typ)(mV): 235; Vin(Max)(V): 10; Vin(Min)(V): 3.77; Vout(Max)(V): 3.3; DatasheetVersion: SLVS092G; PackageVersion: 4040047-3/M; PackageReference: D8; PackageDescription: 8-Pin Plastic Small Outline, Body 4.9 x 3.9 mm, Pitch 1.27 mm; Supplier 1: Digi-Key; Supplier Part Number 1: TPS7133QDRG4-ND; Supplier 2: Mouser; Supplier Part Number 2: 595-TPS7133QDRG4; Eco-Plan: Green (RoHS & no Sb/Br); Vout(Min)(V): 3.3; Mounting Technology: Surface Mount; Code_JEDEC: MS-012; ComponentLink1Description: Manufacturer URL; ComponentLink1URL: http://www.ti.com/; ComponentLink2Description: Datasheet; ComponentLink2URL: http://www.ti.com/general/docs/lit/getliterature.tsp?genericPartNumber=TPS7133&fileType=pdf; ComponentLink3Description: Package Specification; ComponentLink3URL: http://www.ti.com/litv/pdf/msoi002j
footprint TI-D8_N (SOIC, 8-Leads, Body 4.9x3.9mm, Pitch 1.27mm, IPC Medium Density)
footprint TI-D8_L (SOIC, 8-Leads, Body 4.9x3.9mm, Pitch 1.27mm, IPC High Density)
footprint TI-D8_M (SOIC, 8-Leads, Body 4.9x3.9mm, Pitch 1.27mm, IPC Low Density)
pins: 1 GND (power), 2 ~{EN} (in), 3 IN (power), 4 IN (power), 5 OUT (power), 6 OUT (power), 7 SENSE (in), 8 PG (hiz)

## TPS7133QP
designator U?
PMOS LDO, 500 mA, 3.77 to 10 V Input, 8-pin PDIP (P), -40 to 125 degC, Pb-Free (RoHS); Manufacturer: Texas Instruments; PartNumber: TPS7133QP; Iout(Max)(A): 0.5; Iq(Typ)(mA): 0.28; SubFamily: Dual Channel LDO; Vdo(Typ)(mV): 235; Vin(Max)(V): 10; Vin(Min)(V): 3.77; Vout(Max)(V): 3.3; DatasheetVersion: SLVS092G; PackageVersion: 4040082/E; PackageReference: P8; PackageDescription: 8-Pin Plastic In-Line, Body 9.59 x 6.35 mm, 2.54 mm Pitch; Supplier 1: Digi-Key; Supplier Part Number 1: 296-8046-5-ND; Supplier 2: Newark; Supplier Part Number 2: 52F2795; Supplier 3: Mouser; Supplier Part Number 3: 595-TPS7133QP; Eco-Plan: Pb-Free (RoHS); Vout(Min)(V): 3.3; Mounting Technology: Through Hole; Code_JEDEC: MS-001; ComponentLink1Description: Manufacturer URL; ComponentLink1URL: http://www.ti.com/; ComponentLink2Description: Datasheet; ComponentLink2URL: http://www.ti.com/general/docs/lit/getliterature.tsp?genericPartNumber=TPS7133&fileType=pdf; ComponentLink3Description: Package Specification; ComponentLink3URL: http://www.ti.com/litv/pdf/mpdi001b
footprint TI-P8 (DIP, 8-Leads, Body 9.59x6.35mm, Pitch 2.54mm)
pins: 1 GND (power), 2 ~{EN} (in), 3 IN (power), 4 IN (power), 5 OUT (power), 6 OUT (power), 7 SENSE (in), 8 PG (hiz)

## TPS7133QPE4
designator U?
PMOS LDO, 500 mA, 3.77 to 10 V Input, 8-pin PDIP (P), -40 to 125 degC, Pb-Free (RoHS); Manufacturer: Texas Instruments; PartNumber: TPS7133QPE4; Iout(Max)(A): 0.5; Iq(Typ)(mA): 0.28; SubFamily: Dual Channel LDO; Vdo(Typ)(mV): 235; Vin(Max)(V): 10; Vin(Min)(V): 3.77; Vout(Max)(V): 3.3; DatasheetVersion: SLVS092G; PackageVersion: 4040082/E; PackageReference: P8; PackageDescription: 8-Pin Plastic In-Line, Body 9.59 x 6.35 mm, 2.54 mm Pitch; Supplier 1: Digi-Key; Supplier Part Number 1: TPS7133QPE4-ND; Supplier 2: Mouser; Supplier Part Number 2: 595-TPS7133QPE4; Eco-Plan: Pb-Free (RoHS); Vout(Min)(V): 3.3; Mounting Technology: Through Hole; Code_JEDEC: MS-001; ComponentLink1Description: Manufacturer URL; ComponentLink1URL: http://www.ti.com/; ComponentLink2Description: Datasheet; ComponentLink2URL: http://www.ti.com/general/docs/lit/getliterature.tsp?genericPartNumber=TPS7133&fileType=pdf; ComponentLink3Description: Package Specification; ComponentLink3URL: http://www.ti.com/litv/pdf/mpdi001b
footprint TI-P8 (DIP, 8-Leads, Body 9.59x6.35mm, Pitch 2.54mm)
pins: 1 GND (power), 2 ~{EN} (in), 3 IN (power), 4 IN (power), 5 OUT (power), 6 OUT (power), 7 SENSE (in), 8 PG (hiz)

## TPS7133QPW
designator U?
PMOS LDO, 500 mA, 3.77 to 10 V Input, 20-pin TSSOP (PW), -40 to 125 degC, Green (RoHS & no Sb/Br); Manufacturer: Texas Instruments; PartNumber: TPS7133QPW; Iout(Max)(A): 0.5; Iq(Typ)(mA): 0.28; SubFamily: Dual Channel LDO; Vdo(Typ)(mV): 235; Vin(Max)(V): 10; Vin(Min)(V): 3.77; Vout(Max)(V): 3.3; DatasheetVersion: SLVS092G; PackageVersion: 4040064-5/G; PackageReference: PW20; PackageDescription: 20-Pin Plastic Small Outline, Body 6.5 x 4.4 mm, 0.65 mm Pitch; Supplier 1: Digi-Key; Supplier Part Number 1: TPS7133QPW-ND; Supplier 2: Mouser; Supplier Part Number 2: 595-TPS7133QPW; Eco-Plan: Green (RoHS & no Sb/Br); Vout(Min)(V): 3.3; Mounting Technology: Surface Mount; Code_JEDEC: MO-153; ComponentLink1Description: Manufacturer URL; ComponentLink1URL: http://www.ti.com/; ComponentLink2Description: Datasheet; ComponentLink2URL: http://www.ti.com/general/docs/lit/getliterature.tsp?genericPartNumber=TPS7133&fileType=pdf; ComponentLink3Description: Package Specification; ComponentLink3URL: http://www.ti.com.cn/cn/lit/ml/mpds362/mpds362.pdf
footprint TI-PW20_N (SOP, 20-Leads, Body 6.5x4.4mm, Pitch 0.65mm, IPC Medium Density)
footprint TI-PW20_L (SOP, 20-Leads, Body 6.5x4.4mm, Pitch 0.65mm, IPC High Density)
footprint TI-PW20_M (SOP, 20-Leads, Body 6.5x4.4mm, Pitch 0.65mm, IPC Low Density)
part A pins: 1 GND (power), 2 GND (power), 3 GND (power), 6 ~{EN} (in), 8 IN (power), 9 IN (power), 10 IN (power), 13 OUT (power), 14 OUT (power), 15 SENSE (in), 20 PG (hiz)
part B pins: 4 NC, 5 NC, 7 NC, 11 NC, 12 NC, 16 NC, 17 NC, 18 NC, 19 NC

## TPS7133QPWG4
designator U?
PMOS LDO, 500 mA, 3.77 to 10 V Input, 20-pin TSSOP (PW), -40 to 125 degC, Green (RoHS & no Sb/Br); Manufacturer: Texas Instruments; PartNumber: TPS7133QPWG4; Iout(Max)(A): 0.5; Iq(Typ)(mA): 0.28; SubFamily: Dual Channel LDO; Vdo(Typ)(mV): 235; Vin(Max)(V): 10; Vin(Min)(V): 3.77; Vout(Max)(V): 3.3; DatasheetVersion: SLVS092G; PackageVersion: 4040064-5/G; PackageReference: PW20; PackageDescription: 20-Pin Plastic Small Outline, Body 6.5 x 4.4 mm, 0.65 mm Pitch; Supplier 1: Digi-Key; Supplier Part Number 1: TPS7133QPWG4-ND; Supplier 2: Mouser; Supplier Part Number 2: 595-TPS7133QPWG4; Eco-Plan: Green (RoHS & no Sb/Br); Vout(Min)(V): 3.3; Mounting Technology: Surface Mount; Code_JEDEC: MO-153; ComponentLink1Description: Manufacturer URL; ComponentLink1URL: http://www.ti.com/; ComponentLink2Description: Datasheet; ComponentLink2URL: http://www.ti.com/general/docs/lit/getliterature.tsp?genericPartNumber=TPS7133&fileType=pdf; ComponentLink3Description: Package Specification; ComponentLink3URL: http://www.ti.com.cn/cn/lit/ml/mpds362/mpds362.pdf
footprint TI-PW20_N (SOP, 20-Leads, Body 6.5x4.4mm, Pitch 0.65mm, IPC Medium Density)
footprint TI-PW20_L (SOP, 20-Leads, Body 6.5x4.4mm, Pitch 0.65mm, IPC High Density)
footprint TI-PW20_M (SOP, 20-Leads, Body 6.5x4.4mm, Pitch 0.65mm, IPC Low Density)
part A pins: 1 GND (power), 2 GND (power), 3 GND (power), 6 ~{EN} (in), 8 IN (power), 9 IN (power), 10 IN (power), 13 OUT (power), 14 OUT (power), 15 SENSE (in), 20 PG (hiz)
part B pins: 4 NC, 5 NC, 7 NC, 11 NC, 12 NC, 16 NC, 17 NC, 18 NC, 19 NC